# Altium schematic symbol library ERF8-020-05.SchLib: 2 symbols
Pins are listed as number, name and electrical type; pins without a type are passive.

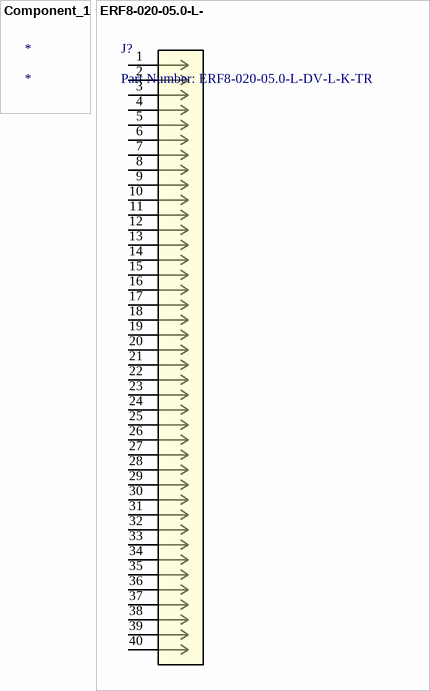
[diagram p0: symbols Component_1 to ERF8-020-05.0-L-]

## Component_1
designator *

## ERF8-020-05.0-L-
designator J?, comment Part Number: ERF8-020-05.0-L-DV-L-K-TR
No Description Available; Vendor: Samtec Inc; Built_By: EMA_UL_Team; Manufacturer_Part_Number: ERF8-020-05.0-L-DV-L-K-TR; Copyright: Copyright (C) 2018 Accelerated Designs. All rights reserved; RefDes: RefDes; Type: DEV; Value: Value
footprint CON40_2X20_USHLE
pins: 1, 2, 3, 4, 5, 6, 7, 8, 9, 10, 11, 12, 13, 14, 15, 16, 17, 18, 19, 20, 21, 22, 23, 24, 25, 26, 27, 28, 29, 30, 31, 32, 33, 34, 35, 36, 37, 38, 39, 40